# Altium footprint library PcbLib1.PcbLib: 218 footprints (part 4 of 14)
Each footprint in its own frame and in the unit in brackets; x right, y up, seen from the top. Pads: shape width x height; smd on the part's side, far side on the other; paste and mask are expansions set on the pad; w line width, h text height; cw(c..) or ccw(c..) is an arc to the next point about the centre after c.
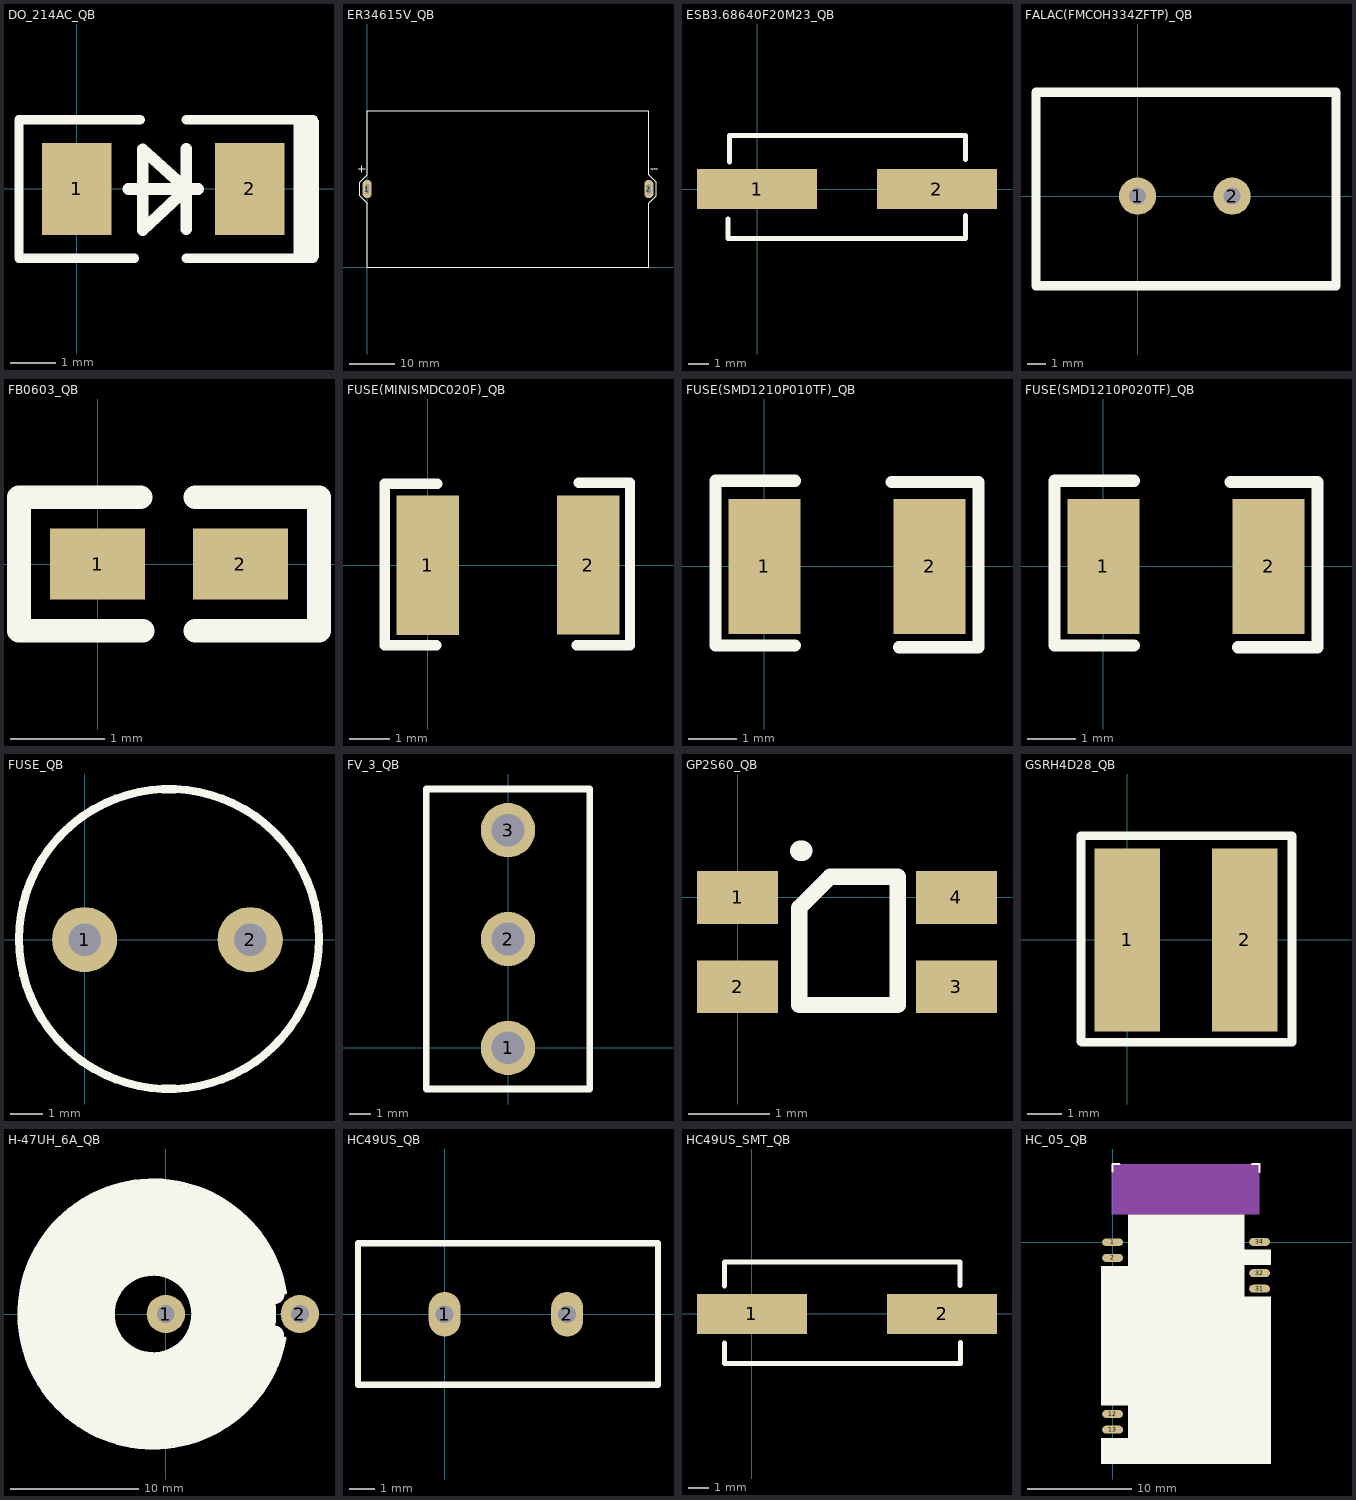
[diagram p3: the footprints below, top view; thin cyan lines are the x and y axes]

## DO_214AC_QB [mil]
height 67
pads (2):
  rect 60x80 smd: 1(0,0) 2(150,0)
Top Overlay:
  rectangle: 188.04,-60.01 210,59.99
  lines w8: 50,-60 -50,-60 -50,60 55,60 ; 95,-60 205,-60 ; 95,60 205,60
  lines w10: 44.72,0 105.41,0 ; 95,-35 95,35 ; 57.13,-35.68 95,0 57.13,34.32 57.13,-35.68
3D body: height 78.74, standoff 0, extent 145,-50 160,45
3D body: height 78.74, standoff 0, extent -10,-47.5 5,47.5
3D body: height 78.74, standoff 0, extent 5,-55 145,55

## ER34615V_QB [mm]
height 34
pads (2):
  oval 2x4 hole 0.8 slot 2 at 90 deg: 1(0,17.1) 2(61.5,17.1)
Top Overlay:
  lines w0.2: -1.925,21.475 -0.425,21.475 ; -1.175,20.725 -1.175,22.225 ; 61.475,0 61.475,14 63.15,15.675 63.15,18.525 61.475,20.2 61.475,34.2 ; 61.5,0 0.025,0 0.025,14 -1.65,15.675 -1.65,18.525 0.025,20.2 0.025,34.2 61.5,34.2 ; 61.925,21.475 63.425,21.475
3D body: height 34.07, standoff 0, extent 0.025,0.068 61.525,34.2

## ESB3.68640F20M23_QB [mm]
pads (2):
  rect 6x2 smd: 1(0,0) 2(9,0)
Top Overlay:
  lines w0.254: -1.45,-1.5 -1.45,-2.475 10.425,-2.475 10.425,-1.325 ; -1.375,1.35 -1.375,2.675 10.425,2.675 10.425,1.475
3D body: height 3, standoff 0.1, extent 2.5,-1.65 6.5,1.85
3D body: height 3, standoff 0.1, extent 4.764,-1.646 8.25,1.847
3D body: height 3, standoff 0.1, extent 0.764,-1.646 4.25,1.847
3D body: height 1, standoff 0.1, extent 1.231,-1.9 7.769,2.1
3D body: height 1, standoff 0.1, extent 5.781,-1.894 9.765,2.098
3D body: height 1, standoff 0.1, extent -0.723,-1.896 3.261,2.096
3D body: height 0.5, standoff 0, extent -1.2,-2.25 10.2,2.45

## FALAC(FMCOH334ZFTP)_QB [mm]
height 0.5
pads (2):
  round 2 hole 0.9: 1(0,0) 2(5.08,0)
Top Overlay:
  lines w0.5: -5.461,-4.826 10.668,-4.826 10.668,5.588 6.636,5.588 -1.429,5.588 -5.461,5.588 -5.461,-4.826
3D body: height 18, standoff 1, extent -4.635,-4.318 9.461,4.699
3D body: height 3, standoff -1, extent -0.598,-0.69 0.598,0.508
3D body: height 3, standoff -1, extent 4.482,-0.563 5.678,0.635

## FB0603_QB [mil]
pads (2):
  rect 40x30 smd: 1(0,0) 2(60,0)
Top Overlay:
  lines w10: 18,28 -33,28 -33,-28 19,-28 ; 41,-28 93,-28 93,28 41,28
3D body: height 35.04, standoff 0, extent -0.4,-16.7 63.4,16.7

## FUSE(MINISMDC020F)_QB [mm]
pads (2):
  rect 1.524x3.41 smd: 1(0,0) 2(3.93,0.01)
Top Overlay:
  lines w0.254: 0.21,-1.95 -1.05,-1.95 -1.05,2 0.23,2 ; 3.65,-1.95 4.95,-1.95 4.95,2.02 3.7,2.02
3D body: height 0.89, standoff 0, extent -0.47,-1.775 4.39,1.745

## FUSE(SMD1210P010TF)_QB [mm]
pads (2):
  rect 1.5x2.8 smd: 1(0,0) 2(3.429,0)
Top Overlay:
  lines w0.254: 0.635,-1.64 -1.016,-1.64 -1.016,1.78 0.635,1.78 ; 2.639,1.75 4.445,1.75 4.445,-1.68 2.794,-1.68
3D body: height 1.25, standoff 0, extent -0.03,-1.39 3.51,1.44

## FUSE(SMD1210P020TF)_QB [mm]
pads (2):
  rect 1.5x2.8 smd: 1(0,0) 2(3.429,0)
Top Overlay:
  lines w0.254: 0.635,-1.64 -1.016,-1.64 -1.016,1.78 0.635,1.78 ; 2.639,1.75 4.445,1.75 4.445,-1.68 2.794,-1.68
3D body: height 1, standoff 0, extent -0.03,-1.39 3.51,1.44

## FUSE_QB [mm]
height 0.5
pads (2):
  round 2 hole 1: 1(0,0) 2(5.08,0)
Top Overlay:
  circle w0.254: c2.589,0.02 r4.601
3D body: height 8, standoff 0, extent -1.713,-4.273 6.853,4.31
3D body: height 3, standoff -1, extent 0,-0.2 0.398,0.2
3D body: height 3, standoff -1, extent 5.08,-0.2 5.478,0.2

## FV_3_QB [mil]
pads (3):
  round 100 hole 60: 1(0,0) 2(0,200) 3(0,400)
Top Overlay:
  lines w12: -150,-75.59 -150,475.59 150,475.59 150,-75.59 -150,-75.59
3D body: height 275.59, standoff -39.37, extent -25,-19.65 14.21,19.65
3D body: height 275.59, standoff -39.37, extent -15,185.35 24.21,224.65
3D body: height 275.59, standoff -39.37, extent -39.21,380.35 0,419.65
3D body: height 431.83, standoff 118.11, extent -155,-1.85 159.34,391.85

## GP2S60_QB [mm]
pads (4):
  rect 1x0.65 smd: 1(0,0) 2(0,-1.1) 3(2.7,-1.1) 4(2.7,0)
Top Overlay:
  lines w0.2: 0.762,-1.325 0.762,-0.127 1.143,0.254 1.975,0.254 1.975,-1.325 0.762,-1.325
  lines w0.254: 0.775,0.575 0.8,0.575
3D body: height 1.1, standoff 0.4, extent 0.096,-1.332 2.596,0.268
3D body: height 0.4, standoff 0, extent -0.403,-0.257 0,-0.092
3D body: height 0.4, standoff 0.1, extent 0.07,-1.384 2.655,0.316
3D body: height 0.38, standoff 0, extent 2.321,-0.263 2.726,0.307
3D body: height 0.4, standoff 0, extent -0.403,-0.991 0,-0.825
3D body: height 0.4, standoff 0, extent 2.724,-0.264 3.127,-0.099
3D body: height 0.38, standoff 0, extent 2.314,-1.383 2.719,-0.819
3D body: height 0.38, standoff 0, extent 0,-1.382 0.405,-0.825
3D body: height 0.38, standoff 0, extent 0,-0.257 0.405,0.313
3D body: height 0.4, standoff 0, extent 2.719,-0.985 3.122,-0.819

## GSRH4D28_QB [mm]
pads (2):
  rect 1.9x5.3 smd: 1(0,0) 2(3.4,0)
Top Overlay:
  lines w0.254: 4.773,-2.972 -1.323,-2.972 -1.323,-2.946 -1.348,-2.946 -1.348,3.023 4.773,3.023 4.773,-2.946
3D body: height 3, standoff 0, extent -0.674,-2.464 4.026,2.489

## H-47UH_6A_QB [mm]
height 9
pads (2):
  round 3 hole 1.4: 1(0,0) 2(10.5,0)
Top Overlay:
  circle w1: c-1.016,0 r9.144
  circle w6: c-1,0 r6
  lines w0.254: 9.328,-1.892 cw(c-1,0) 9.367,1.666
  lines w1.5: 8.514,-1.652 cw(c-1.016,0) 8.535,1.528
3D body: height 9, standoff 0, extent -11.492,-10.492 9.491,10.492

## HC49US_QB [mil]
pads (2):
  oval 50x70 hole 28: 1(0,0) 2(192.13,0)
Top Overlay:
  lines w10: -135.83,-110.24 334.65,-110.24 334.65,111.22 -135.83,111.22 -135.83,-110.24
3D body: height 137.8, standoff 0, extent 96.06,-88.41 272.53,88.41
3D body: height 39.37, standoff 0, extent 129.02,-98.33 325.1,98.13
3D body: height 39.37, standoff 0, extent -126.88,-98.33 69.19,98.13
3D body: height 137.8, standoff 0, extent -61.42,-88.41 115.05,88.41
3D body: height 137.8, standoff 0, extent 20.56,-88.58 178.04,88.58
3D body: height 39.37, standoff 0, extent -29.24,-98.33 227.85,98.33

## HC49US_SMT_QB [mm]
height 3.8
pads (2):
  rect 5.5x2 smd: 1(0,0) 2(9.5,0)
Top Overlay:
  lines w0.254: -1.375,-1.45 -1.375,-2.475 10.425,-2.475 ; -1.375,1.4 -1.375,2.6 10.4,2.6 10.4,1.425 ; 10.425,-1.425 10.425,-2.475 ; 10.425,-2.475 10.425,-2.475
3D body: height 3, standoff 0.1, extent 2.5,-1.65 6.5,1.85
3D body: height 3, standoff 0.1, extent 4.764,-1.646 8.25,1.847
3D body: height 3, standoff 0.1, extent 0.764,-1.646 4.25,1.847
3D body: height 1, standoff 0.1, extent 1.231,-1.9 7.769,2.1
3D body: height 1, standoff 0.1, extent 5.781,-1.894 9.765,2.098
3D body: height 1, standoff 0.1, extent -0.723,-1.896 3.261,2.096
3D body: height 0.5, standoff 0, extent -1.2,-2.25 10.2,2.45

## HC_05_QB [mm]
pads (7):
  oval 2x0.76 smd: 1(0,0) 2(0,-1.5) 12(0,-16.5) 13(0,-18) 31(14.12,-4.46) 32(14.12,-2.96) 34(14.12,0.04)
Top Layer:
  pour cut-out: 12.319,0 12.319,-0.2 12.241,-0.593 12.088,-0.963 11.865,-1.295 11.582,-1.578 11.25,-1.801 10.88,-1.954 10.487,-2.032 10.287,-2.032 10.087,-2.032 9.694,-1.954 9.324,-1.801 8.992,-1.578 8.709,-1.295 8.486,-0.963 8.333,-0.593 8.255,-0.2 8.255,0 8.255,0.2 8.333,0.593 8.486,0.963 8.709,1.295 8.992,1.578 9.324,1.801 9.694,1.954 10.087,2.032 10.287,2.032 10.487,2.032 10.88,1.954 11.25,1.801 11.582,1.578 11.865,1.295 12.088,0.963 12.241,0.593 12.319,0.2
Bottom Layer:
  pour cut-out: 12.319,0 12.319,-0.2 12.241,-0.593 12.088,-0.963 11.865,-1.295 11.582,-1.578 11.25,-1.801 10.88,-1.954 10.487,-2.032 10.287,-2.032 10.087,-2.032 9.694,-1.954 9.324,-1.801 8.992,-1.578 8.709,-1.295 8.486,-0.963 8.333,-0.593 8.255,-0.2 8.255,0 8.255,0.2 8.333,0.593 8.486,0.963 8.709,1.295 8.992,1.578 9.324,1.801 9.694,1.954 10.087,2.032 10.287,2.032 10.487,2.032 10.88,1.954 11.25,1.801 11.582,1.578 11.865,1.295 12.088,0.963 12.241,0.593 12.319,0.2
Top Overlay:
  rectangle: 12,-2.2 15.2,-0.7
  rectangle: -1.1,-21.3 15.2,-18.8
  rectangle: 1.5,-20.2 15.2,-5.2
  rectangle: -1.1,-15.7 7.8,-2.3
  region: 12.679,-7.8 12.679,2.67 1.479,2.67 1.479,-7.8
  lines w0.2: -0.009,6.79 -0.009,7.52 0.68,7.52 ; 13.38,7.52 14.13,7.52 14.13,6.77
Mechanical 1:
  pour cut-out: -0.07,7.52 14.13,7.52 14.1,7.49 14.1,2.7 -0.07,2.7
3D body: height 0.8, standoff 0, extent -0.045,-21.228 14.101,7.493
3D body: height 0.8, standoff 0, extent 13.159,-0.288 14.093,0.368
3D body: height 0.8, standoff 0, extent 13.159,-3.288 14.093,-2.632
3D body: height 0.8, standoff 0, extent 13.159,-4.788 14.093,-4.132
3D body: height 0.8, standoff 0, extent 0.027,-18.328 0.961,-17.672
3D body: height 0.8, standoff 0, extent 0.027,-16.828 0.961,-16.172
3D body: height 0.8, standoff 0, extent 0.027,-1.828 0.961,-1.172
3D body: height 0.8, standoff 0, extent 0.027,-0.328 0.961,0.328
3D body: height 2, standoff 0, extent 1.431,-19.952 12.682,2.72